# Altium integrated library RG_LED.IntLib: 1 symbol
Pins are listed as number, name and electrical type; pins without a type are passive.

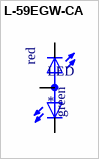
[diagram p0: symbol L-59EGW-CA]

## L-59EGW-CA
designator LED
LED; 5mm; bicolour; red/green; 5mcd; 5mcd; 60Â°; Front: convex; anode; MF: Kingbright; MP: L-59EGW-CA; Package: None; Value: *; Availability: Unavailable; SnapEDA_Link: https://www.snapeda.com/parts/L-59EGW-CA/Kingbright/view-part/885747/?ref=snap; Price: None
footprint L-59EGW-CA
pins: 1 CR, 2 A, 3 CG
text: red; green